# Altium integrated library Module.IntLib: 3 symbols
Pins are listed as number, name and electrical type; pins without a type are passive.

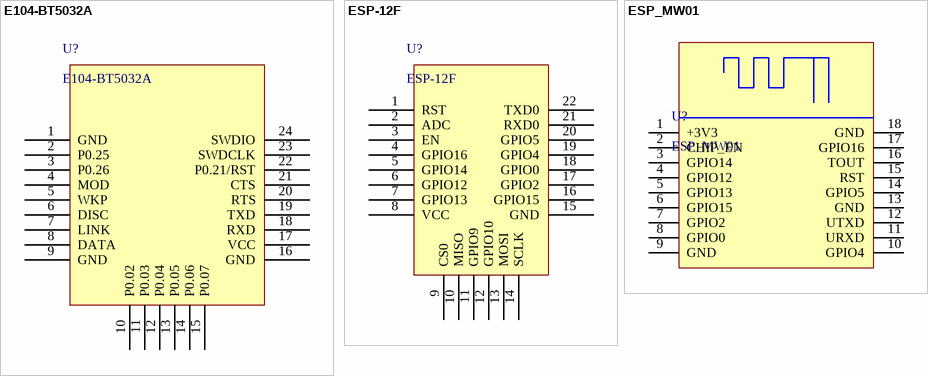
[diagram p0: symbols E104-BT5032A to ESP_MW01]

## E104-BT5032A
designator U?
eByte nRF52832 BLE module with AT commands
footprint E104-BT5032A
pins: 1 GND, 2 P0.25, 3 P0.26, 4 MOD, 5 WKP, 6 DISC, 7 LINK, 8 DATA, 9 GND, 10 P0.02, 11 P0.03, 12 P0.04, 13 P0.05, 14 P0.06, 15 P0.07, 16 GND, 17 VCC, 18 RXD, 19 TXD, 20 RTS, 21 CTS, 22 P0.21/RST, 23 SWDCLK, 24 SWDIO

## ESP-12F
designator U?
AiThinker ESP-12F ESP8266 wifi uart module
footprint ESP-12F
pins: 1 RST, 2 ADC, 3 EN, 4 GPIO16, 5 GPIO14, 6 GPIO12, 7 GPIO13, 8 VCC, 9 CS0, 10 MISO, 11 GPIO9, 12 GPIO10, 13 MOSI, 14 SCLK, 15 GND, 16 GPIO15, 17 GPIO2, 18 GPIO0, 19 GPIO4, 20 GPIO5, 21 RXD0, 22 TXD0

## ESP_MW01
designator U?
ESP8266 module designed by Maiwei
footprint ESP_MW01_SMT
footprint ESP_MW01_THT
pins: 1 +3V3, 2 CHIP_EN, 3 GPIO14, 4 GPIO12, 5 GPIO13, 6 GPIO15, 7 GPIO2, 8 GPIO0, 9 GND, 10 GPIO4, 11 URXD, 12 UTXD, 13 GND, 14 GPIO5, 15 RST, 16 TOUT, 17 GPIO16, 18 GND